# Altium schematic symbol library STM32F407VGT6.SchLib: 1 symbol
Pins are listed as number, name and electrical type; pins without a type are passive.

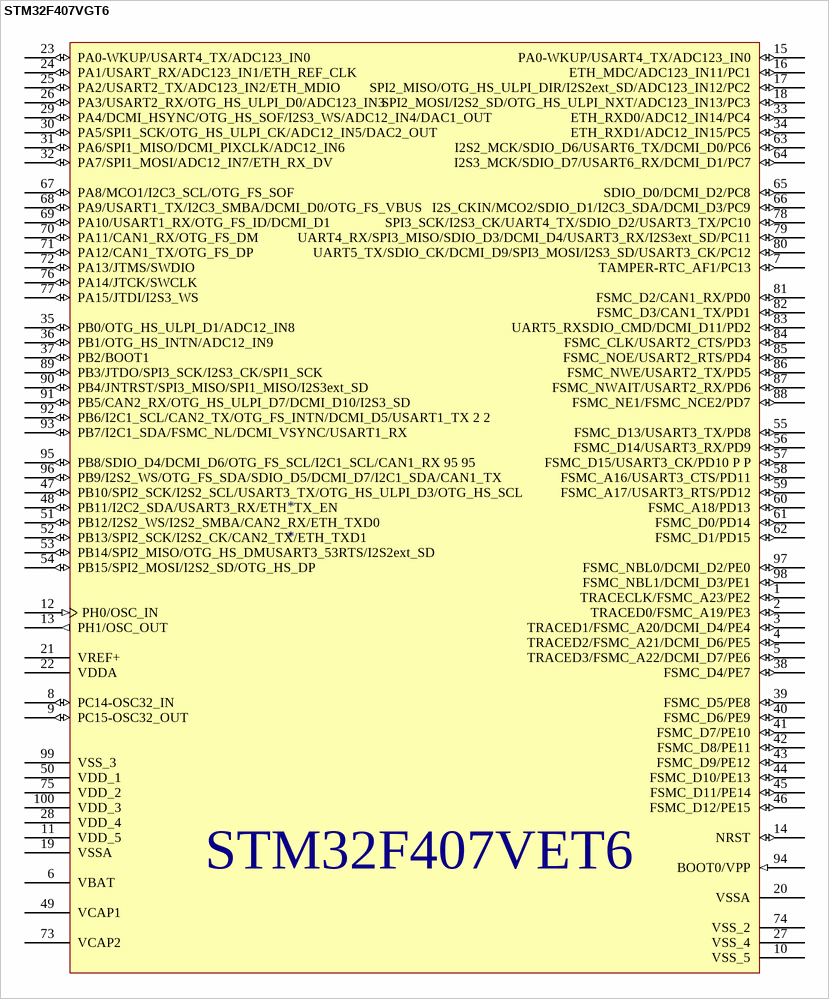
[diagram p0: symbol STM32F407VGT6]

## STM32F407VGT6
designator *
pins: 1 TRACECLK/FSMC_A23/PE2 (io), 2 TRACED0/FSMC_A19/PE3 (io), 3 TRACED1/FSMC_A20/DCMI_D4/PE4 (io), 4 TRACED2/FSMC_A21/DCMI_D6/PE5 (io), 5 TRACED3/FSMC_A22/DCMI_D7/PE6 (io), 6 VBAT (power), 7 TAMPER-RTC_AF1/PC13 (io), 8 PC14-OSC32_IN (io), 9 PC15-OSC32_OUT (io), 10 VSS_5 (power), 11 VDD_5 (power), 12 PH0/OSC_IN (in), 13 PH1/OSC_OUT (out), 14 NRST (io), 15 PA0-WKUP/USART4_TX/ADC123_IN0 (io), 16 ETH_MDC/ADC123_IN11/PC1 (io), 17 SPI2_MISO/OTG_HS_ULPI_DIR/I2S2ext_SD/ADC123_IN12/PC2 (io), 18 SPI2_MOSI/I2S2_SD/OTG_HS_ULPI_NXT/ADC123_IN13/PC3 (io), 19 VSSA (power), 20 VSSA (power), 21 VREF+ (power), 22 VDDA (power), 23 PA0-WKUP/USART4_TX/ADC123_IN0 (io), 24 PA1/USART_RX/ADC123_IN1/ETH_REF_CLK (io), 25 PA2/USART2_TX/ADC123_IN2/ETH_MDIO (io), 26 PA3/USART2_RX/OTG_HS_ULPI_D0/ADC123_IN3 (io), 27 VSS_4 (power), 28 VDD_4 (power), 29 PA4/DCMI_HSYNC/OTG_HS_SOF/I2S3_WS/ADC12_IN4/DAC1_OUT (io), 30 PA5/SPI1_SCK/OTG_HS_ULPI_CK/ADC12_IN5/DAC2_OUT (io), 31 PA6/SPI1_MISO/DCMI_PIXCLK/ADC12_IN6 (io), 32 PA7/SPI1_MOSI/ADC12_IN7/ETH_RX_DV (io), 33 ETH_RXD0/ADC12_IN14/PC4 (io), 34 ETH_RXD1/ADC12_IN15/PC5 (io), 35 PB0/OTG_HS_ULPI_D1/ADC12_IN8 (io), 36 PB1/OTG_HS_INTN/ADC12_IN9 (io), 37 PB2/BOOT1 (io), 38 FSMC_D4/PE7 (io), 39 FSMC_D5/PE8 (io), 40 FSMC_D6/PE9 (io), 41 FSMC_D7/PE10 (io), 42 FSMC_D8/PE11 (io), 43 FSMC_D9/PE12 (io), 44 FSMC_D10/PE13 (io), 45 FSMC_D11/PE14 (io), 46 FSMC_D12/PE15 (io), 47 PB10/SPI2_SCK/I2S2_SCL/USART3_TX/OTG_HS_ULPI_D3/OTG_HS_SCL (io), 48 PB11/I2C2_SDA/USART3_RX/ETH_TX_EN (io), 49 VCAP1 (power), 50 VDD_1 (power), 51 PB12/I2S2_WS/I2S2_SMBA/CAN2_RX/ETH_TXD0 (io), 52 PB13/SPI2_SCK/I2S2_CK/CAN2_TX/ETH_TXD1 (io), 53 PB14/SPI2_MISO/OTG_HS_DMUSART3_53RTS/I2S2ext_SD (io), 54 PB15/SPI2_MOSI/I2S2_SD/OTG_HS_DP (io), 55 FSMC_D13/USART3_TX/PD8 (io), 56 FSMC_D14/USART3_RX/PD9 (io), 57 FSMC_D15/USART3_CK/PD10 P P (io), 58 FSMC_A16/USART3_CTS/PD11 (io), 59 FSMC_A17/USART3_RTS/PD12 (io), 60 FSMC_A18/PD13 (io), 61 FSMC_D0/PD14 (io), 62 FSMC_D1/PD15 (io), 63 I2S2_MCK/SDIO_D6/USART6_TX/DCMI_D0/PC6 (io), 64 I2S3_MCK/SDIO_D7/USART6_RX/DCMI_D1/PC7 (io), 65 SDIO_D0/DCMI_D2/PC8 (io), 66 I2S_CKIN/MCO2/SDIO_D1/I2C3_SDA/DCMI_D3/PC9 (io), 67 PA8/MCO1/I2C3_SCL/OTG_FS_SOF (io), 68 PA9/USART1_TX/I2C3_SMBA/DCMI_D0/OTG_FS_VBUS (io), 69 PA10/USART1_RX/OTG_FS_ID/DCMI_D1 (io), 70 PA11/CAN1_RX/OTG_FS_DM (io), 71 PA12/CAN1_TX/OTG_FS_DP (io), 72 PA13/JTMS/SWDIO (io), 73 VCAP2, 74 VSS_2 (power), 75 VDD_2 (power), 76 PA14/JTCK/SWCLK (io), 77 PA15/JTDI/I2S3_WS (io), 78 SPI3_SCK/I2S3_CK/UART4_TX/SDIO_D2/USART3_TX/PC10 (io), 79 UART4_RX/SPI3_MISO/SDIO_D3/DCMI_D4/USART3_RX/I2S3ext_SD/PC11 (io), 80 UART5_TX/SDIO_CK/DCMI_D9/SPI3_MOSI/I2S3_SD/USART3_CK/PC12 (io), 81 FSMC_D2/CAN1_RX/PD0 (io), 82 FSMC_D3/CAN1_TX/PD1 (io), 83 UART5_RXSDIO_CMD/DCMI_D11/PD2 (io), 84 FSMC_CLK/USART2_CTS/PD3 (io), 85 FSMC_NOE/USART2_RTS/PD4 (io), 86 FSMC_NWE/USART2_TX/PD5 (io), 87 FSMC_NWAIT/USART2_RX/PD6 (io), 88 FSMC_NE1/FSMC_NCE2/PD7 (io), 89 PB3/JTDO/SPI3_SCK/I2S3_CK/SPI1_SCK (io), 90 PB4/JNTRST/SPI3_MISO/SPI1_MISO/I2S3ext_SD (io), 91 PB5/CAN2_RX/OTG_HS_ULPI_D7/DCMI_D10/I2S3_SD (io), 92 PB6/I2C1_SCL/CAN2_TX/OTG_FS_INTN/DCMI_D5/USART1_TX 2 2 (io), 93 PB7/I2C1_SDA/FSMC_NL/DCMI_VSYNC/USART1_RX (io), 94 BOOT0/VPP (in), 95 PB8/SDIO_D4/DCMI_D6/OTG_FS_SCL/I2C1_SCL/CAN1_RX 95 95 (io), 96 PB9/I2S2_WS/OTG_FS_SDA/SDIO_D5/DCMI_D7/I2C1_SDA/CAN1_TX (io), 97 FSMC_NBL0/DCMI_D2/PE0 (io), 98 FSMC_NBL1/DCMI_D3/PE1 (io), 99 VSS_3 (power), 100 VDD_3 (power)
text: STM32F407VET6